# Altium footprint library SOD-523F.PcbLib: 1 footprints
Each footprint in its own frame and in the unit in brackets; x right, y up, seen from the top. Pads: shape width x height; smd on the part's side, far side on the other; paste and mask are expansions set on the pad; w line width, h text height; cw(c..) or ccw(c..) is an arc to the next point about the centre after c.
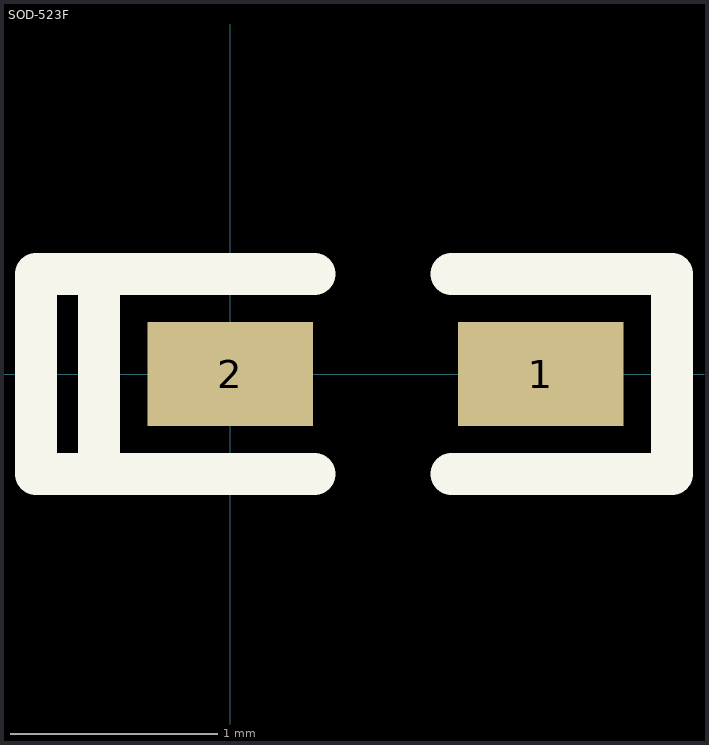
[diagram p0: the footprint, top view; thin cyan lines are the x and y axes]

## SOD-523F [mm]
pads (2):
  rect 0.8x0.5 smd: 1(1.499,0) 2(0,0)
Top Overlay:
  lines w0.203: -0.635,-0.483 -0.635,0.483 ; 0.406,-0.483 -0.94,-0.483 -0.94,0.483 0.406,0.483 ; 1.067,-0.483 2.134,-0.483 2.134,0.483 1.067,0.483
Mechanical 4:
  text "0.0311" at 0.051,0 h0.03
3D body: height 0.71, standoff 0, extent -0.102,-0.432 1.6,0.457